# EAGLE library part RJ45_SOCKET_PTH (library SamacSys_Parts)
RJ45 SOCKET INSERT, 8-POS.CAT6 RJ45 SOCKET INSERT, 8-POS.CAT6 Source: Datasheet <http://docs-emea.rs-online.com/webdocs/12c3/0900766b812c3888.pdf>
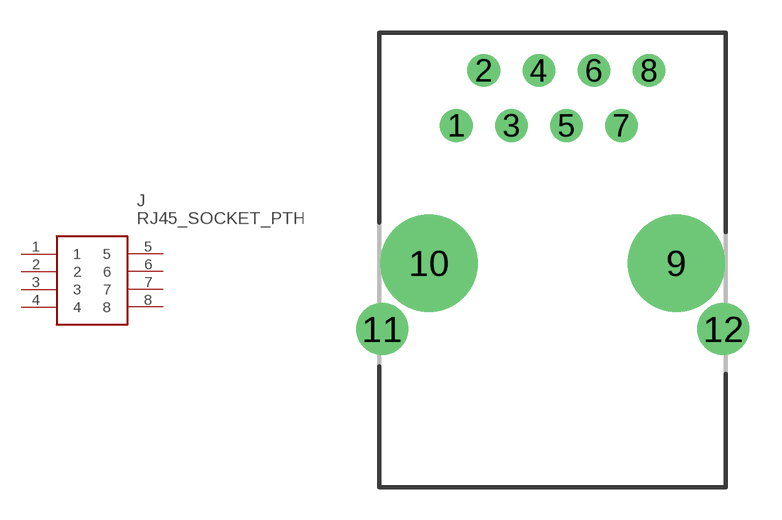
[diagram p6: symbol with the pads of RJ45-8POS; footprint RJ45-8POS]

Designator prefix J

## RJ45_SOCKET_PTH (ARROW_PART_NUMBER: 1653087; ARROW_PRICE-STOCK: https://www.arrow.com/en/products/1653087/phoenix-contact; DESCRIPTION: RJ45 SOCKET INSERT, 8-POS.CAT6 RJ45 SOCKET INSERT, 8-POS.CAT6; HEIGHT: mm; MANUFACTURER_NAME: Phoenix Contact; MANUFACTURER_PART_NUMBER: 1653087; MOUSER_PART_NUMBER: 651-1653087; MOUSER_PRICE-STOCK: https://www.mouser.co.uk/ProductDetail/Phoenix-Contact/1653087/?qs=6%2FFeaQJ1IXiVYVH9tpK8sQ%3D%3D)  [RJ45-8POS]
1  1
2  2
3  3
4  4
5  5
6  6
7  7
8  8

## Footprint RJ45-8POS (pad centres in mm)
RJ45-8pos
drill 1 pad 1.5: 1 3.555,16.7; 2 4.825,19.24; 3 6.095,16.7; 4 7.365,19.24; 5 8.635,16.7; 6 9.905,19.24; 7 11.175,16.7; 8 12.445,19.24
drill 3.2 pad 4.5: 9 13.715,10.35; 10 2.285,10.35
drill 1.6 pad 2.4: 11 0.125,7.3; 12 15.875,7.3